# EAGLE library part TAYLOR_MICRO_USB (library Flutter_ARM_R5_Basic)
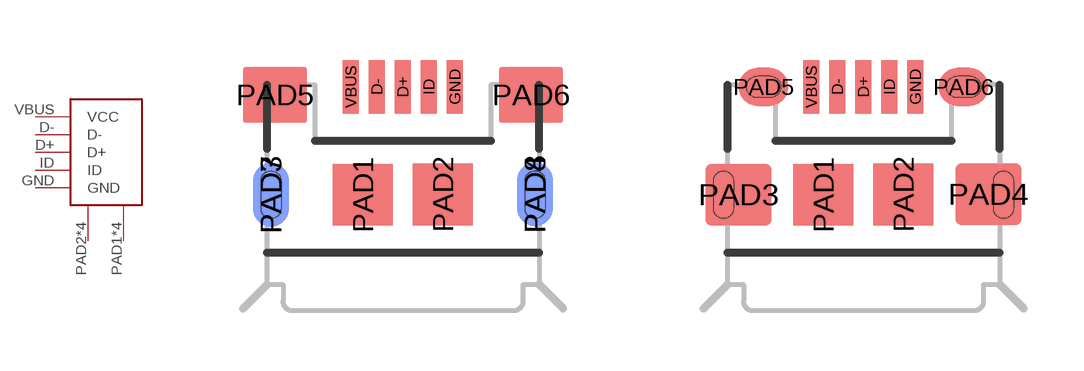
[diagram p3: symbol with the pads of TAYLOR_MICRO-USB-SLOT-2; footprints TAYLOR_MICRO-USB-SLOT-2, TAYLOR_USB-MICROB-SLOT-HOLE]

Designator prefix -

## TAYLOR_MICRO_USB  [TAYLOR_MICRO-USB-SLOT-2]
D+  D+
D-  D-
GND  GND
ID  ID
PAD1  P$2
PAD2  P$3
PAD3  P$2
PAD4  P$3
PAD5  P$2
PAD6  P$3
PAD7  P$2
PAD8  P$3
VBUS  VCC

## TAYLOR_MICRO_USB4SLOT  [TAYLOR_USB-MICROB-SLOT-HOLE]
D+  D+
D-  D-
GND  GND
ID  ID
PAD1  P$2
PAD2  P$3
PAD3  P$2
PAD4  P$3
PAD5  P$2
PAD6  P$3
VBUS  VCC

## Footprint TAYLOR_MICRO-USB-SLOT-2 (pad centres in mm)
smd 0.4 x 1.35: D+ 0,2.7; D- -0.65,2.7; GND 1.3,2.7; ID 0.65,2.7; VBUS -1.3,2.7
smd 1.5 x 1.55: PAD1 -1,0; PAD2 1,0.01
smd 0.9 x 1.6: PAD3 -3.3,0; PAD4 3.3,0.01
smd 1.6 x 1.4: PAD5 -3.2,2.5; PAD6 3.2,2.5
smd 0.9 x 1.6 bottom: PAD7 -3.3,0; PAD8 3.3,0.01

## Footprint TAYLOR_USB-MICROB-SLOT-HOLE (pad centres in mm)
smd 0.4 x 1.35: D+ 0,2.7; D- -0.65,2.7; GND 1.3,2.7; ID 0.65,2.7; VBUS -1.3,2.7
smd 1.5 x 1.55: PAD1 -1,0; PAD2 1,0.01
smd 1.645 x 1.55: PAD3 -3.123,0; PAD4 3.122,0.01
smd 1.25 x 0.95: PAD5 -2.5,2.7; PAD6 2.5,2.7